# Altium footprint library WR-TBL_Rising Cage Clamp_5.08mm.PcbLib: 81 footprints (part 3 of 6)
Each footprint in its own frame and in the unit in brackets; x right, y up, seen from the top. Pads: shape width x height; smd on the part's side, far side on the other; paste and mask are expansions set on the pad; w line width, h text height; cw(c..) or ccw(c..) is an arc to the next point about the centre after c.
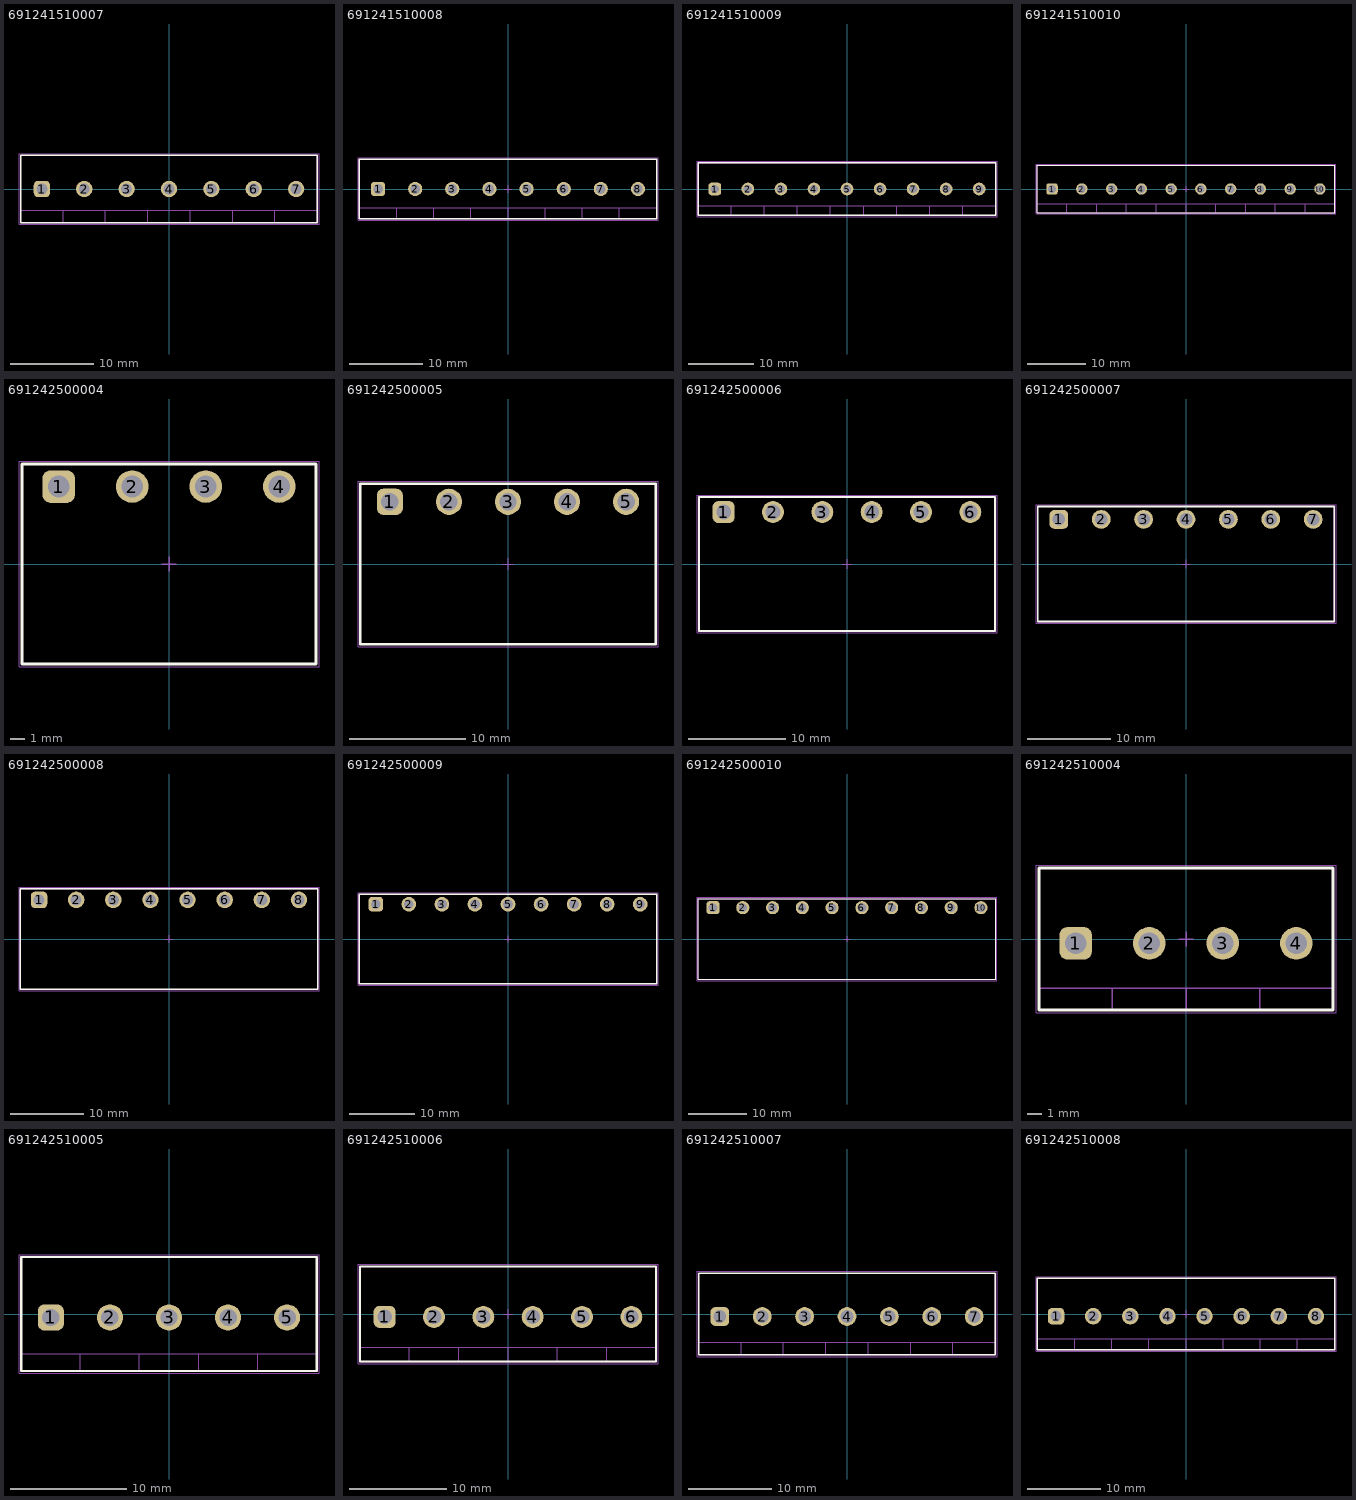
[diagram p2: the footprints below, top view; thin cyan lines are the x and y axes]

## 691241510007 [mm] "Serie 2415 - 5.08 mm _ 7 pins"
height 10
pads (7):
  rrect50% 1.95x1.95 hole 1.3: 1(-15.24,0)
  round 1.95 hole 1.3: 2(-10.16,0) 3(-5.08,0) 4(0,0) 5(5.08,0) 6(10.16,0) 7(15.24,0)
Top Overlay:
  lines w0.2: -17.78,-4.05 17.78,-4.05 17.78,4.05 -17.78,4.05 -17.78,-4.05
Top Assembly:
  lines w0.1: -17.78,-2.55 17.78,-2.55 ; -12.7,-4.05 -12.7,-2.55 ; -7.62,-4.05 -7.62,-2.55 ; -2.54,-4.05 -2.54,-2.55 ; 2.54,-4.05 2.54,-2.55 ; 7.62,-4.04 7.62,-2.54 ; 12.7,-4.04 12.7,-2.54 ; -17.78,-4.05 -17.78,4.05 17.78,4.05 17.78,-4.05 -17.78,-4.05
Top Designator:
  text ".Designator" at -3.647,-0.357 h1
Top 3D Body:
  lines w0.1: -17.78,-2.55 17.78,-2.55 ; -12.7,-4.05 -12.7,-2.55 ; -7.62,-4.05 -7.62,-2.55 ; -2.54,-4.05 -2.54,-2.55 ; 2.54,-4.05 2.54,-2.55 ; 7.62,-4.04 7.62,-2.54 ; 12.7,-4.04 12.7,-2.54 ; -17.78,-4.05 17.78,-4.05 17.78,4.05 -17.78,4.05 -17.78,-4.05
Top Courtyard:
  lines w0.05: -17.98,-4.25 17.98,-4.25 17.98,4.25 -17.98,4.25 -17.98,-4.25
Top Component Center:
  lines w0.1: -0.5,0 0.5,0 ; 0,-0.5 0,0.5
3D body "691241510007.stp": height 10.05, standoff -3.45, extent -17.78,-4.05 17.78,4.05

## 691241510008 [mm] "Serie 2415 - 5.08 mm _ 8 pins"
height 10
pads (8):
  rrect50% 1.95x1.95 hole 1.3: 1(-17.78,0)
  round 1.95 hole 1.3: 2(-12.7,0) 3(-7.62,0) 4(-2.54,0) 5(2.54,0) 6(7.62,0) 7(12.7,0) 8(17.78,0)
Top Overlay:
  lines w0.2: -20.32,-4.05 -20.32,4.05 20.32,4.05 20.32,-4.05 -20.32,-4.05
Top Assembly:
  lines w0.1: -20.32,-2.55 20.32,-2.55 ; -15.24,-4.05 -15.24,-2.55 ; -10.16,-4.05 -10.16,-2.55 ; -5.08,-4.05 -5.08,-2.55 ; 0,-4.05 0,-2.55 ; 5.08,-4.04 5.08,-2.54 ; 10.16,-4.04 10.16,-2.54 ; 15.24,-4.04 15.24,-2.54 ; -20.32,-4.05 20.32,-4.05 20.32,4.05 -20.32,4.05 -20.32,-4.05
Top Designator:
  text ".Designator" at -3.647,-0.357 h1
Top 3D Body:
  lines w0.1: -20.32,-2.55 20.32,-2.55 ; -15.24,-4.05 -15.24,-2.55 ; -10.16,-4.05 -10.16,-2.55 ; -5.08,-4.05 -5.08,-2.55 ; 0,-4.05 0,-2.55 ; 5.08,-4.04 5.08,-2.54 ; 10.16,-4.04 10.16,-2.54 ; 15.24,-4.04 15.24,-2.54 ; -20.32,-4.05 -20.32,4.05 20.32,4.05 20.32,-4.05 -20.32,-4.05
Top Courtyard:
  lines w0.05: -20.52,-4.25 -20.52,4.25 20.52,4.25 20.52,-4.25 -20.52,-4.25
Top Component Center:
  lines w0.1: -0.5,0 0.5,0 ; 0,-0.5 0,0.5
3D body "691241510008.stp": height 10.05, standoff -3.45, extent -20.32,-4.05 20.32,4.05

## 691241510009 [mm] "Serie 2415 - 5.08 mm _ 9 pins"
height 10
pads (9):
  rrect50% 1.95x1.95 hole 1.3: 1(-20.32,0)
  round 1.95 hole 1.3: 2(-15.24,0) 3(-10.16,0) 4(-5.08,0) 5(0,0) 6(5.08,0) 7(10.16,0) 8(15.24,0) 9(20.32,0)
Top Overlay:
  lines w0.2: -22.86,-4.05 22.86,-4.05 22.86,4.05 -22.86,4.05 -22.86,-4.05
Top Assembly:
  lines w0.1: -22.86,-2.55 22.86,-2.55 ; -17.78,-4.05 -17.78,-2.55 ; -12.7,-4.05 -12.7,-2.55 ; -7.62,-4.05 -7.62,-2.55 ; -2.54,-4.05 -2.54,-2.55 ; 2.54,-4.04 2.54,-2.54 ; 7.62,-4.04 7.62,-2.54 ; 12.7,-4.04 12.7,-2.54 ; 17.78,-4.04 17.78,-2.54 ; -22.86,-4.05 -22.86,4.05 22.86,4.05 22.86,-4.05 -22.86,-4.05
Top Designator:
  text ".Designator" at -3.647,-0.357 h1
Top 3D Body:
  lines w0.1: -22.86,-2.55 22.86,-2.55 ; -17.78,-4.05 -17.78,-2.55 ; -12.7,-4.05 -12.7,-2.55 ; -7.62,-4.05 -7.62,-2.55 ; -2.54,-4.05 -2.54,-2.55 ; 2.54,-4.04 2.54,-2.54 ; 7.62,-4.04 7.62,-2.54 ; 12.7,-4.04 12.7,-2.54 ; 17.78,-4.04 17.78,-2.54 ; -22.86,-4.05 22.86,-4.05 22.86,4.05 -22.86,4.05 -22.86,-4.05
Top Courtyard:
  lines w0.05: -23.06,-4.25 23.06,-4.25 23.06,4.25 -23.06,4.25 -23.06,-4.25
Top Component Center:
  lines w0.1: -0.5,0 0.5,0 ; 0,-0.5 0,0.5
3D body "691241510009.stp": height 10.05, standoff -3.45, extent -22.86,-4.05 22.86,4.05

## 691241510010 [mm] "Serie 2415 - 5.08 mm _ 10 pins"
height 10
pads (10):
  rrect50% 1.95x1.95 hole 1.3: 1(-22.86,0)
  round 1.95 hole 1.3: 2(-17.78,0) 3(-12.7,0) 4(-7.62,0) 5(-2.54,0) 6(2.54,0) 7(7.62,0) 8(12.7,0) 9(17.78,0) 10(22.86,0)
Top Overlay:
  lines w0.2: -25.4,-4.05 25.4,-4.05 25.4,4.05 -25.4,4.05 -25.4,-4.05
Top Assembly:
  lines w0.1: -25.4,-2.55 25.4,-2.55 ; -20.32,-4.05 -20.32,-2.55 ; -15.24,-4.05 -15.24,-2.55 ; -10.16,-4.05 -10.16,-2.55 ; -5.08,-4.05 -5.08,-2.55 ; 0,-4.04 0,-2.54 ; 5.08,-4.04 5.08,-2.54 ; 10.16,-4.04 10.16,-2.54 ; 15.24,-4.04 15.24,-2.54 ; 20.32,-4.04 20.32,-2.54 ; -25.4,-4.05 -25.4,4.05 25.4,4.05 25.4,-4.05 -25.4,-4.05
Top Designator:
  text ".Designator" at -3.647,-0.357 h1
Top 3D Body:
  lines w0.1: -25.4,-2.55 25.4,-2.55 ; -20.32,-4.05 -20.32,-2.55 ; -15.24,-4.05 -15.24,-2.55 ; -10.16,-4.05 -10.16,-2.55 ; -5.08,-4.05 -5.08,-2.55 ; 0,-4.04 0,-2.54 ; 5.08,-4.04 5.08,-2.54 ; 10.16,-4.04 10.16,-2.54 ; 15.24,-4.04 15.24,-2.54 ; 20.32,-4.04 20.32,-2.54 ; -25.4,-4.05 25.4,-4.05 25.4,4.05 -25.4,4.05 -25.4,-4.05
Top Courtyard:
  lines w0.05: -25.6,-4.25 25.6,-4.25 25.6,4.25 -25.6,4.25 -25.6,-4.25
Top Component Center:
  lines w0.1: -0.5,0 0.5,0 ; 0,-0.5 0,0.5
3D body "691241510010.stp": height 10.05, standoff -3.45, extent -25.4,-4.05 25.4,4.05

## 691242500004 [mm] "Serie 2425-5.08mm Vertical Cable Entry with Rising Cage Clamp, 4 pins"
height 9
pads (4):
  rrect50% 2.25x2.25 hole 1.5: 1(-7.62,5.35)
  round 2.25 hole 1.5: 2(-2.54,5.35) 3(2.54,5.35) 4(7.62,5.35)
Top Overlay:
  lines w0.2: -10.16,-6.9 -10.16,6.9 10.16,6.9 10.16,-6.9 -10.16,-6.9
Top Assembly:
  lines w0.1: -10.16,-6.9 10.16,-6.9 10.16,6.9 -10.16,6.9 -10.16,-6.9
Top Designator:
  text ".Designator" at -3.647,-0.357 h1
Top 3D Body:
  lines w0.1: -10.16,-6.9 -10.16,6.9 10.16,6.9 10.16,-6.9 -10.16,-6.9
Top Courtyard:
  lines w0.05: -10.36,-7.1 -10.36,7.1 10.36,7.1 10.36,-7.1 -10.36,-7.1
Top Component Center:
  lines w0.1: -0.5,0 0.5,0 ; 0,-0.5 0,0.5
3D body "691242500004.stp": height 9.9, standoff -3.4, extent -10.16,-6.9 10.16,6.9

## 691242500005 [mm] "Serie 2425-5.08mm Vertical Cable Entry with Rising Cage Clamp, 5 pins"
height 9
pads (5):
  rrect50% 2.25x2.25 hole 1.5: 1(-10.16,5.35)
  round 2.25 hole 1.5: 2(-5.08,5.35) 3(0,5.35) 4(5.08,5.35) 5(10.16,5.35)
Top Overlay:
  lines w0.2: -12.7,-6.9 12.7,-6.9 12.7,6.9 -12.7,6.9 -12.7,-6.9
Top Assembly:
  lines w0.1: -12.7,-6.9 -12.7,6.9 12.7,6.9 12.7,-6.9 -12.7,-6.9
Top Designator:
  text ".Designator" at -3.647,-0.357 h1
Top 3D Body:
  lines w0.1: -12.7,-6.9 12.7,-6.9 12.7,6.9 -12.7,6.9 -12.7,-6.9
Top Courtyard:
  lines w0.05: -12.9,-7.1 12.9,-7.1 12.9,7.1 -12.9,7.1 -12.9,-7.1
Top Component Center:
  lines w0.1: -0.5,0 0.5,0 ; 0,-0.5 0,0.5
3D body "691242500005.stp": height 9.9, standoff -3.4, extent -12.7,-6.9 12.71,6.9

## 691242500006 [mm] "Serie 2425-5.08mm Vertical Cable Entry with Rising Cage Clamp, 6 pins"
height 9
pads (6):
  rrect50% 2.25x2.25 hole 1.5: 1(-12.7,5.35)
  round 2.25 hole 1.5: 2(-7.62,5.35) 3(-2.54,5.35) 4(2.54,5.35) 5(7.62,5.35) 6(12.7,5.35)
Top Overlay:
  lines w0.2: -15.24,-6.9 -15.24,6.9 15.24,6.9 15.24,-6.9 -15.24,-6.9
Top Assembly:
  lines w0.1: -15.24,-6.9 15.24,-6.9 15.24,6.9 -15.24,6.9 -15.24,-6.9
Top Designator:
  text ".Designator" at -3.647,-0.357 h1
Top 3D Body:
  lines w0.1: -15.24,-6.9 -15.24,6.9 15.24,6.9 15.24,-6.9 -15.24,-6.9
Top Courtyard:
  lines w0.05: -15.44,-7.1 -15.44,7.1 15.44,7.1 15.44,-7.1 -15.44,-7.1
Top Component Center:
  lines w0.1: -0.5,0 0.5,0 ; 0,-0.5 0,0.5
3D body "691242500006.stp": height 9.9, standoff -3.4, extent -15.24,-6.9 15.25,6.9

## 691242500007 [mm] "Serie 2425-5.08mm Vertical Cable Entry with Rising Cage Clamp, 7 pins"
height 9
pads (7):
  rrect50% 2.25x2.25 hole 1.5: 1(-15.24,5.35)
  round 2.25 hole 1.5: 2(-10.16,5.35) 3(-5.08,5.35) 4(0,5.35) 5(5.08,5.35) 6(10.16,5.35) 7(15.24,5.35)
Top Overlay:
  lines w0.2: -17.78,-6.9 -17.78,6.9 17.78,6.9 17.78,-6.9 -17.78,-6.9
Top Assembly:
  lines w0.1: -17.78,-6.9 17.78,-6.9 17.78,6.9 -17.78,6.9 -17.78,-6.9
Top Designator:
  text ".Designator" at -3.647,-0.357 h1
Top 3D Body:
  lines w0.1: -17.78,-6.9 -17.78,6.9 17.78,6.9 17.78,-6.9 -17.78,-6.9
Top Courtyard:
  lines w0.05: -17.98,-7.1 -17.98,7.1 17.98,7.1 17.98,-7.1 -17.98,-7.1
Top Component Center:
  lines w0.1: -0.5,0 0.5,0 ; 0,-0.5 0,0.5
3D body "691242500007.stp": height 9.9, standoff -3.4, extent -17.78,-6.9 17.79,6.9

## 691242500008 [mm] "Serie 2425-5.08mm Vertical Cable Entry with Rising Cage Clamp, 8 pins"
height 9
pads (8):
  rrect50% 2.25x2.25 hole 1.5: 1(-17.78,5.35)
  round 2.25 hole 1.5: 2(-12.7,5.35) 3(-7.62,5.35) 4(-2.54,5.35) 5(2.54,5.35) 6(7.62,5.35) 7(12.7,5.35) 8(17.78,5.35)
Top Overlay:
  lines w0.2: -20.32,-6.9 20.32,-6.9 20.32,6.9 -20.32,6.9 -20.32,-6.9
Top Assembly:
  lines w0.1: -20.32,-6.9 -20.32,6.9 20.32,6.9 20.32,-6.9 -20.32,-6.9
Top Designator:
  text ".Designator" at -3.647,-0.357 h1
Top 3D Body:
  lines w0.1: -20.32,-6.9 20.32,-6.9 20.32,6.9 -20.32,6.9 -20.32,-6.9
Top Courtyard:
  lines w0.05: -20.52,-7.1 20.52,-7.1 20.52,7.1 -20.52,7.1 -20.52,-7.1
Top Component Center:
  lines w0.1: -0.5,0 0.5,0 ; 0,-0.5 0,0.5
3D body "691242500008.stp": height 9.9, standoff -3.4, extent -20.32,-6.9 20.33,6.9

## 691242500009 [mm] "Serie 2425-5.08mm Vertical Cable Entry with Rising Cage Clamp, 9 pins"
height 9
pads (9):
  rrect50% 2.25x2.25 hole 1.5: 1(-20.32,5.35)
  round 2.25 hole 1.5: 2(-15.24,5.35) 3(-10.16,5.35) 4(-5.08,5.35) 5(0,5.35) 6(5.08,5.35) 7(10.16,5.35) 8(15.24,5.35) 9(20.32,5.35)
Top Overlay:
  lines w0.2: -22.86,-6.9 22.86,-6.9 22.86,6.9 -22.86,6.9 -22.86,-6.9
Top Assembly:
  lines w0.1: -22.86,-6.9 -22.86,6.9 22.86,6.9 22.86,-6.9 -22.86,-6.9
Top Designator:
  text ".Designator" at -3.647,-0.357 h1
Top 3D Body:
  lines w0.1: -22.86,-6.9 22.86,-6.9 22.86,6.9 -22.86,6.9 -22.86,-6.9
Top Courtyard:
  lines w0.05: -23.06,-7.1 23.06,-7.1 23.06,7.1 -23.06,7.1 -23.06,-7.1
Top Component Center:
  lines w0.1: -0.5,0 0.5,0 ; 0,-0.5 0,0.5
3D body "691242500009.stp": height 9.9, standoff -3.4, extent -22.86,-6.9 22.87,6.9

## 691242500010 [mm] "Serie 2425-5.08mm Vertical Cable Entry with Rising Cage Clamp, 10 pins"
height 9
pads (10):
  rrect50% 2.25x2.25 hole 1.5: 1(-22.86,5.35)
  round 2.25 hole 1.5: 2(-17.78,5.35) 3(-12.7,5.35) 4(-7.62,5.35) 5(-2.54,5.35) 6(2.54,5.35) 7(7.62,5.35) 8(12.7,5.35) 9(17.78,5.35) 10(22.86,5.35)
Top Overlay:
  lines w0.2: -25.4,-6.9 25.4,-6.9 25.4,6.9 -25.4,6.9 -25.4,-6.9
Top Assembly:
  lines w0.1: -25.4,-6.9 -25.4,6.9 25.4,6.9 25.4,-6.9 -25.4,-6.9
Top Designator:
  text ".Designator" at -3.647,-0.357 h1
Top 3D Body:
  lines w0.1: -25.4,-6.9 25.4,-6.9 25.4,6.9 -25.4,6.9 -25.4,-6.9
Top Courtyard:
  lines w0.05: -25.6,-7.1 25.6,-7.1 25.6,7.1 -25.6,7.1 -25.6,-7.1
Top Component Center:
  lines w0.1: -0.5,0 0.5,0 ; 0,-0.5 0,0.5
3D body "691242500010.stp": height 9.9, standoff -3.4, extent -25.4,-6.9 25.41,6.9

## 691242510004 [mm] "Serie 2425 - 5.08 mm _ 4 pins"
height 13.8
pads (4):
  rrect50% 2.25x2.25 hole 1.5: 1(-7.62,-0.3)
  round 2.25 hole 1.5: 2(-2.54,-0.3) 3(2.54,-0.3) 4(7.62,-0.3)
Top Overlay:
  lines w0.2: -10.16,-4.9 -10.16,4.9 10.16,4.9 10.16,-4.9 -10.16,-4.9
Top Assembly:
  lines w0.1: -10.16,-3.4 10.16,-3.4 ; -5.08,-4.9 -5.08,-3.4 ; 0,-4.9 0,-3.4 ; 5.08,-4.9 5.08,-3.4 ; -10.16,-4.9 10.16,-4.9 10.16,4.9 -10.16,4.9 -10.16,-4.9
Top Designator:
  text ".Designator" at -3.647,-0.357 h1
Top 3D Body:
  lines w0.1: -10.16,-3.4 10.16,-3.4 ; -5.08,-4.9 -5.08,-3.4 ; 0,-4.9 0,-3.4 ; 5.08,-4.9 5.08,-3.4 ; -10.16,-4.9 -10.16,4.9 10.16,4.9 10.16,-4.9 -10.16,-4.9
Top Courtyard:
  lines w0.05: -10.36,-5.1 10.36,-5.1 10.36,5.1 -10.36,5.1 -10.36,-5.1
Top Component Center:
  lines w0.1: -0.5,0 0.5,0 ; 0,-0.5 0,0.5
3D body "691242510004.stp": height 13.85, standoff -3.45, extent -10.16,-4.9 10.16,4.9

## 691242510005 [mm] "Serie 2425 - 5.08 mm _ 5 pins"
height 13.8
pads (5):
  rrect50% 2.25x2.25 hole 1.5: 1(-10.16,-0.3)
  round 2.25 hole 1.5: 2(-5.08,-0.3) 3(0,-0.3) 4(5.08,-0.3) 5(10.16,-0.3)
Top Overlay:
  lines w0.2: -12.7,-4.9 12.7,-4.9 12.7,4.9 -12.7,4.9 -12.7,-4.9
Top Assembly:
  lines w0.1: -12.7,-3.4 12.7,-3.4 ; -7.62,-4.9 -7.62,-3.4 ; -2.54,-4.9 -2.54,-3.4 ; 2.54,-4.9 2.54,-3.4 ; 7.62,-4.9 7.62,-3.4 ; -12.7,-4.9 -12.7,4.9 12.7,4.9 12.7,-4.9 -12.7,-4.9
Top Designator:
  text ".Designator" at -3.647,-0.357 h1
Top 3D Body:
  lines w0.1: -12.7,-3.4 12.7,-3.4 ; -7.62,-4.9 -7.62,-3.4 ; -2.54,-4.9 -2.54,-3.4 ; 2.54,-4.9 2.54,-3.4 ; 7.62,-4.9 7.62,-3.4 ; -12.7,-4.9 12.7,-4.9 12.7,4.9 -12.7,4.9 -12.7,-4.9
Top Courtyard:
  lines w0.05: -12.9,-5.1 -12.9,5.1 12.9,5.1 12.9,-5.1 -12.9,-5.1
Top Component Center:
  lines w0.1: -0.5,0 0.5,0 ; 0,-0.5 0,0.5
3D body "691242510005.stp": height 13.85, standoff -3.45, extent -12.7,-4.9 12.7,4.9

## 691242510006 [mm] "Serie 2425 - 5.08 mm _ 6 pins"
height 13.8
pads (6):
  rrect50% 2.25x2.25 hole 1.5: 1(-12.7,-0.3)
  round 2.25 hole 1.5: 2(-7.62,-0.3) 3(-2.54,-0.3) 4(2.54,-0.3) 5(7.62,-0.3) 6(12.7,-0.3)
Top Overlay:
  lines w0.2: -15.24,-4.9 -15.24,4.9 15.24,4.9 15.24,-4.9 -15.24,-4.9
Top Assembly:
  lines w0.1: -15.24,-3.4 15.24,-3.4 ; -10.16,-4.9 -10.16,-3.4 ; -5.08,-4.9 -5.08,-3.4 ; 0,-4.9 0,-3.4 ; 5.08,-4.9 5.08,-3.4 ; 10.16,-4.9 10.16,-3.4 ; -15.24,-4.9 15.24,-4.9 15.24,4.9 -15.24,4.9 -15.24,-4.9
Top Designator:
  text ".Designator" at -3.647,-0.357 h1
Top 3D Body:
  lines w0.1: -15.24,-3.4 15.24,-3.4 ; -10.16,-4.9 -10.16,-3.4 ; -5.08,-4.9 -5.08,-3.4 ; 0,-4.9 0,-3.4 ; 5.08,-4.9 5.08,-3.4 ; 10.16,-4.9 10.16,-3.4 ; -15.24,-4.9 -15.24,4.9 15.24,4.9 15.24,-4.9 -15.24,-4.9
Top Courtyard:
  lines w0.05: -15.44,-5.1 15.44,-5.1 15.44,5.1 -15.44,5.1 -15.44,-5.1
Top Component Center:
  lines w0.1: -0.5,0 0.5,0 ; 0,-0.5 0,0.5
3D body "691242510006.stp": height 13.85, standoff -3.45, extent -15.24,-4.9 15.24,4.9

## 691242510007 [mm] "Serie 2425 - 5.08 mm _ 7 pins"
height 13.8
pads (7):
  rrect50% 2.25x2.25 hole 1.5: 1(-15.24,-0.3)
  round 2.25 hole 1.5: 2(-10.16,-0.3) 3(-5.08,-0.3) 4(0,-0.3) 5(5.08,-0.3) 6(10.16,-0.3) 7(15.24,-0.3)
Top Overlay:
  lines w0.2: -17.78,-4.9 -17.78,4.9 17.78,4.9 17.78,-4.9 -17.78,-4.9
Top Assembly:
  lines w0.1: -17.78,-3.4 17.78,-3.4 ; -12.7,-4.9 -12.7,-3.4 ; -7.62,-4.9 -7.62,-3.4 ; -2.54,-4.9 -2.54,-3.4 ; 2.54,-4.9 2.54,-3.4 ; 7.62,-4.9 7.62,-3.4 ; 12.7,-4.9 12.7,-3.4 ; -17.78,-4.9 17.78,-4.9 17.78,4.9 -17.78,4.9 -17.78,-4.9
Top Designator:
  text ".Designator" at -3.647,-0.357 h1
Top 3D Body:
  lines w0.1: -17.78,-3.4 17.78,-3.4 ; -12.7,-4.9 -12.7,-3.4 ; -7.62,-4.9 -7.62,-3.4 ; -2.54,-4.9 -2.54,-3.4 ; 2.54,-4.9 2.54,-3.4 ; 7.62,-4.9 7.62,-3.4 ; 12.7,-4.9 12.7,-3.4 ; -17.78,-4.9 -17.78,4.9 17.78,4.9 17.78,-4.9 -17.78,-4.9
Top Courtyard:
  lines w0.05: -17.98,-5.1 17.98,-5.1 17.98,5.1 -17.98,5.1 -17.98,-5.1
Top Component Center:
  lines w0.1: -0.5,0 0.5,0 ; 0,-0.5 0,0.5
3D body "691242510007.stp": height 13.85, standoff -3.45, extent -17.78,-4.9 17.78,4.9

## 691242510008 [mm] "Serie 2425 - 5.08 mm _ 8 pins"
height 13.8
pads (8):
  rrect50% 2.25x2.25 hole 1.5: 1(-17.78,-0.3)
  round 2.25 hole 1.5: 2(-12.7,-0.3) 3(-7.62,-0.3) 4(-2.54,-0.3) 5(2.54,-0.3) 6(7.62,-0.3) 7(12.7,-0.3) 8(17.78,-0.3)
Top Overlay:
  lines w0.2: -20.32,-4.9 20.32,-4.9 20.32,4.9 -20.32,4.9 -20.32,-4.9
Top Assembly:
  lines w0.1: -20.32,-3.4 20.32,-3.4 ; -15.24,-4.9 -15.24,-3.4 ; -10.16,-4.9 -10.16,-3.4 ; -5.08,-4.9 -5.08,-3.4 ; 0,-4.9 0,-3.4 ; 5.08,-4.9 5.08,-3.4 ; 10.16,-4.9 10.16,-3.4 ; 15.24,-4.9 15.24,-3.4 ; -20.32,-4.9 -20.32,4.9 20.32,4.9 20.32,-4.9 -20.32,-4.9
Top Designator:
  text ".Designator" at -3.647,-0.357 h1
Top 3D Body:
  lines w0.1: -20.32,-3.4 20.32,-3.4 ; -15.24,-4.9 -15.24,-3.4 ; -10.16,-4.9 -10.16,-3.4 ; -5.08,-4.9 -5.08,-3.4 ; 0,-4.9 0,-3.4 ; 5.08,-4.9 5.08,-3.4 ; 10.16,-4.9 10.16,-3.4 ; 15.24,-4.9 15.24,-3.4 ; -20.32,-4.9 20.32,-4.9 20.32,4.9 -20.32,4.9 -20.32,-4.9
Top Courtyard:
  lines w0.05: -20.52,-5.1 -20.52,5.1 20.52,5.1 20.52,-5.1 -20.52,-5.1
Top Component Center:
  lines w0.1: -0.5,0 0.5,0 ; 0,-0.5 0,0.5
3D body "691242510008.stp": height 13.85, standoff -3.45, extent -20.32,-4.9 20.32,4.9